# EAGLE library part LM311M (library lab1)
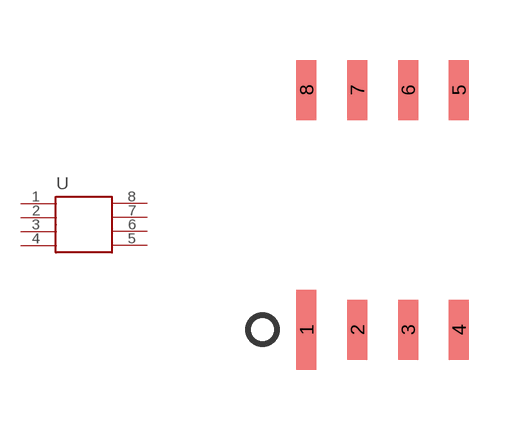
[diagram p0: symbol with the pads of LM311M-FOOT; footprint LM311M-FOOT]

Designator prefix U

## LM311M  [LM311M-FOOT]
1  1
2  2
3  3
4  4
5  5
6  6
7  7
8  8

## Footprint LM311M-FOOT (pad centres in mm)
smd 0.5 x 2: 1 -1.905,-3
smd 0.5 x 1.5: 2 -0.635,-3; 3 0.635,-3; 4 1.905,-3; 5 1.905,3; 6 0.635,3; 7 -0.635,3; 8 -1.905,3